# EAGLE library part 18014115401L (library WPME-CDIS)
WPME-CDIS Capacitive Digital Isolator Standard Characteristics Industrial standard package and pin configuration Signal transmission in high-speed applications (data rate up to 150 Mbps) High level of immunity to system noise (CMTI ±150 kV/µs) UL 1577 approval Applications Communication bus isolation Motor Control Industrial SMPS Test and measurement systems Microcontroller and DSP application Industrial automation Programmable logic controller (PLC) interfaces Battery management systems Solar inverters <https://www.we-online.com/components/media/o758945v209%20multi-parts-WPM-CDIS-18014015401H.jpg> Details see: www.we-online.com/en/components/products/DIGITAL-ISOLATORS-WPME-CDIS <www.we-online.com/catalog/DIGITAL-ISOLATORS-WPME-CDIS/?utm_source=eagle_model&utm_medium=description_link&utm_campaign=eisos_eagle> Updated by Ella Wu 2023-10-18 2023 (C) Wurth Elektronik
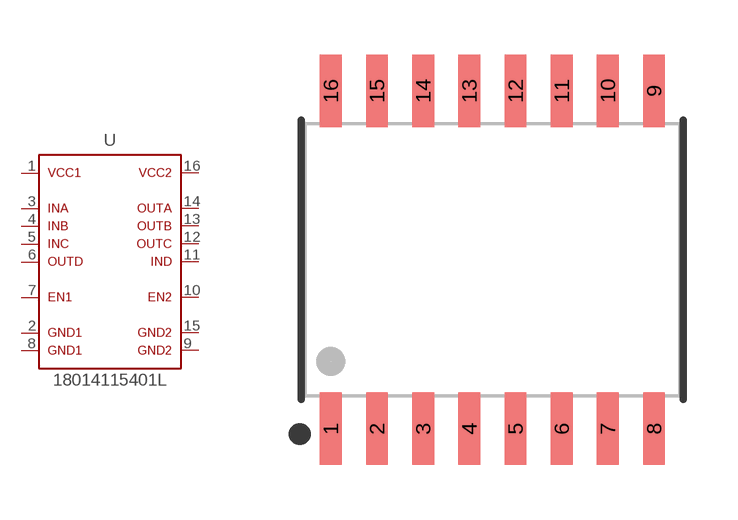
[diagram p12: symbol with the pads of WPME-CDIS_SOIC16WB_18014X; footprint WPME-CDIS_SOIC16WB_18014X]

Designator prefix U

## 18014115401L (CHANNEL-CONFIGURATION: 3/1; CMTI: 150 kV/us; DATASHEET-URL: https://www.we-online.com/redexpert/spec/18014115401L?ae; DR: 150 Mbps; HEIGHT: 2.65mm; LENGTH: 10.3mm; MOUNT: SMT; PART-NUMBER: 18014115401L; SIZE: SOIC 16WB; STANDARDAUSGABE: Low; TPLH-TPHL: 12 ns; VALUE: 18014115401L; VCC-MAX: 5.5 V; VCC-MIN: 2.375 V; VISO: 5000 V (RMS); WIDTH: 10.3mm)  [WPME-CDIS_SOIC16WB_18014X]
1  1  pas
2  2  pas
3  3  pas
4  4  pas
5  5  pas
6  6  pas
7  7  pas
8  8  pas
9  9  pas
10  10  pas
11  11  pas
12  12  pas
13  13  pas
14  14  pas
15  15  pas
16  16  pas

## Footprint WPME-CDIS_SOIC16WB_18014X (pad centres in mm)
WPME-CDIS Capacitive Digital Isolator Standard Size: SOIC 16WB, SMT, 16pins LXWXH = 10.3X7.5X2.3mm
smd 0.6 x 2: 1 -4.445,-4.65; 2 -3.175,-4.65; 3 -1.905,-4.65; 4 -0.635,-4.65; 5 0.635,-4.65; 6 1.905,-4.65; 7 3.175,-4.65; 8 4.445,-4.65; 9 4.445,4.65; 10 3.175,4.65; 11 1.905,4.65; 12 0.635,4.65; 13 -0.635,4.65; 14 -1.905,4.65; 15 -3.175,4.65; 16 -4.445,4.65